# Altium footprint library CONN_TBLOCK_2P54.PcbLib: 38 footprints (part 2 of 3)
Each footprint in its own frame and in the unit in brackets; x right, y up, seen from the top. Pads: shape width x height; smd on the part's side, far side on the other; paste and mask are expansions set on the pad; w line width, h text height; cw(c..) or ccw(c..) is an arc to the next point about the centre after c.
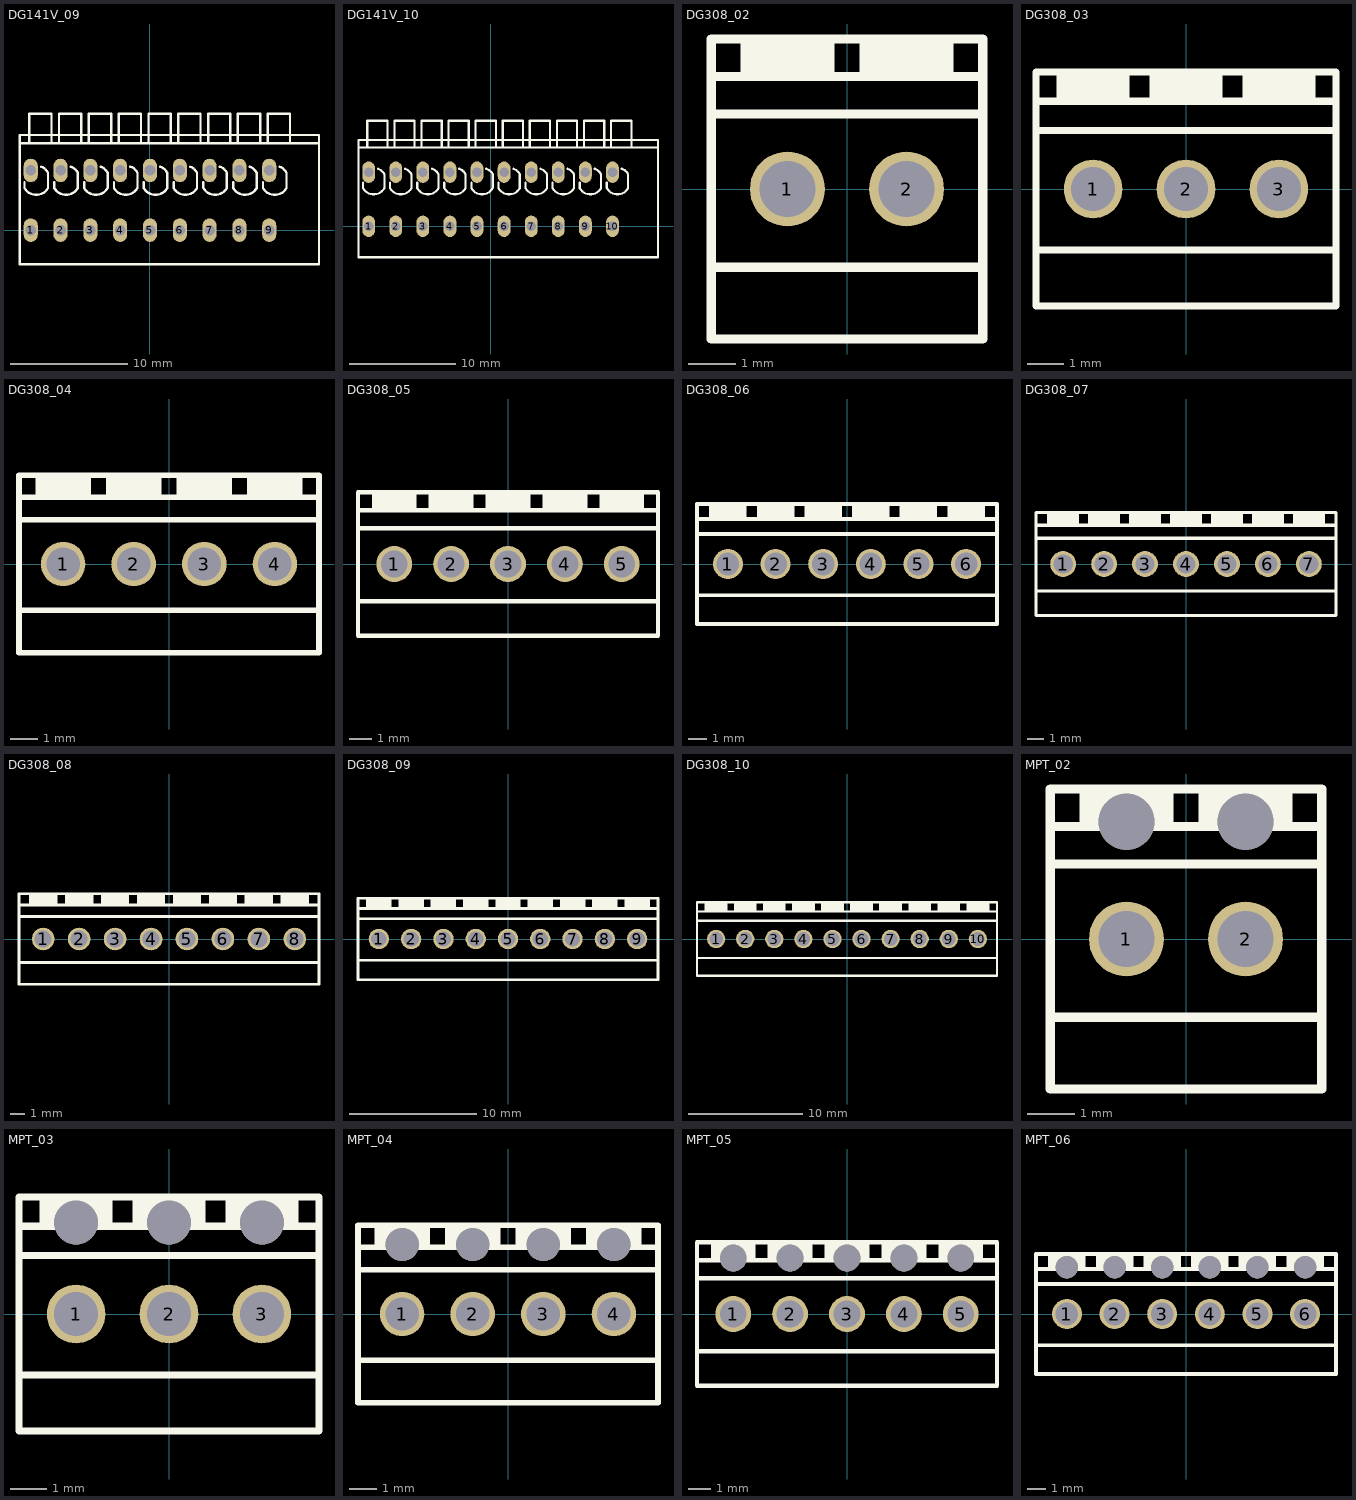
[diagram p1: the footprints below, top view; thin cyan lines are the x and y axes]

## DG141V_09 [mm] "Terminal Block Spring, Pitch 2.54mm, Green"
height 13.6
pads (18):
  oval 1.2x2 hole 0.9: 1(-10.16,0) 2(-7.62,0) 3(-5.08,0) 4(-2.54,0) 5(0,0) 6(2.54,0) 7(5.08,0) 8(7.62,0) 9(10.16,0) ""(-10.16,5.08) ""(-7.62,5.08) ""(-5.08,5.08) ""(-2.54,5.08) ""(0,5.08) ""(2.54,5.08) ""(5.08,5.08) ""(7.62,5.08) ""(10.16,5.08)
Top Overlay:
  lines w0.2: -11.1,7.4 14.4,7.4 ; -10.69,3.6 -10.69,4.1 ; -10.686,3.575 ccw(c-9.69,4.15) -8.694,3.575 ; -10.29,7.4 -10.29,9.9 -8.39,9.9 -8.39,7.4 ; -9.288,5.404 cw(c-9.686,4.325) -8.69,4.9 -8.69,3.6 ; -8.15,3.6 -8.15,4.1 ; -8.146,3.575 ccw(c-7.15,4.15) -6.154,3.575 ; -7.75,7.4 -7.75,9.9 -5.85,9.9 -5.85,7.4 ; -6.748,5.404 cw(c-7.146,4.325) -6.15,4.9 -6.15,3.6 ; -5.61,3.6 -5.61,4.1 ; -5.606,3.575 ccw(c-4.61,4.15) -3.614,3.575 ; -5.21,7.4 -5.21,9.9 -3.31,9.9 -3.31,7.4 ; -4.208,5.404 cw(c-4.606,4.325) -3.61,4.9 -3.61,3.6 ; -3.07,3.6 -3.07,4.1 ; -3.066,3.575 ccw(c-2.07,4.15) -1.074,3.575 ; -2.67,7.4 -2.67,9.9 -0.77,9.9 -0.77,7.4 ; -1.668,5.404 cw(c-2.066,4.325) -1.07,4.9 -1.07,3.6 ; -0.53,3.6 -0.53,4.1 ; -0.526,3.575 ccw(c0.47,4.15) 1.466,3.575 ; -0.13,7.4 -0.13,9.9 1.77,9.9 1.77,7.4 ; 0.872,5.404 cw(c0.474,4.325) 1.47,4.9 1.47,3.6 ; 2.01,3.6 2.01,4.1 ; 2.014,3.575 ccw(c3.01,4.15) 4.006,3.575 ; 2.41,7.4 2.41,9.9 4.31,9.9 4.31,7.4 ; 3.412,5.404 cw(c3.014,4.325) 4.01,4.9 4.01,3.6 ; 4.55,3.6 4.55,4.1 ; 4.554,3.575 ccw(c5.55,4.15) 6.546,3.575 ; 4.95,7.4 4.95,9.9 6.85,9.9 6.85,7.4 ; 5.952,5.404 cw(c5.554,4.325) 6.55,4.9 6.55,3.6 ; 7.09,3.6 7.09,4.1 ; 7.094,3.575 ccw(c8.09,4.15) 9.086,3.575 ; 7.49,7.4 7.49,9.9 9.39,9.9 9.39,7.4 ; 8.492,5.404 cw(c8.094,4.325) 9.09,4.9 9.09,3.6 ; 9.63,3.6 9.63,4.1 ; 9.634,3.575 ccw(c10.63,4.15) 11.626,3.575 ; 10.03,7.4 10.03,9.9 11.93,9.9 11.93,7.4 ; 11.032,5.404 cw(c10.634,4.325) 11.63,4.9 11.63,3.6 ; -11.1,-2.9 -11.1,8.1 14.4,8.1 14.4,-2.9 -11.1,-2.9
3D body "DG141V-2.54-03P.stp": height 13.6, standoff -3.5, extent 4.18,-2.8 14.34,9.8
3D body "DG141V-2.54-03P.stp": height 13.6, standoff -3.5, extent -3.44,-2.8 6.72,9.8
3D body "DG141V-2.54-03P.stp": height 13.6, standoff -3.5, extent -11.06,-2.8 -0.9,9.8

## DG141V_10 [mm] "Terminal Block Spring, Pitch 2.54mm, Green"
height 13.6
pads (20):
  oval 1.2x2 hole 0.9: 1(-11.43,0) 2(-8.89,0) 3(-6.35,0) 4(-3.81,0) 5(-1.27,0) 6(1.27,0) 7(3.81,0) 8(6.35,0) 9(8.89,0) 10(11.43,0) ""(-11.43,5.08) ""(-8.89,5.08) ""(-6.35,5.08) ""(-3.81,5.08) ""(-1.27,5.08) ""(1.27,5.08) ""(3.81,5.08) ""(6.35,5.08) ""(8.89,5.08) ""(11.43,5.08)
Top Overlay:
  lines w0.2: -12.4,7.4 15.7,7.4 ; -11.96,3.6 -11.96,4.1 ; -11.956,3.575 ccw(c-10.96,4.15) -9.964,3.575 ; -11.56,7.4 -11.56,9.9 -9.66,9.9 -9.66,7.4 ; -10.558,5.404 cw(c-10.956,4.325) -9.96,4.9 -9.96,3.6 ; -9.42,3.6 -9.42,4.1 ; -9.416,3.575 ccw(c-8.42,4.15) -7.424,3.575 ; -9.02,7.4 -9.02,9.9 -7.12,9.9 -7.12,7.4 ; -8.018,5.404 cw(c-8.416,4.325) -7.42,4.9 -7.42,3.6 ; -6.88,3.6 -6.88,4.1 ; -6.876,3.575 ccw(c-5.88,4.15) -4.884,3.575 ; -6.48,7.4 -6.48,9.9 -4.58,9.9 -4.58,7.4 ; -5.478,5.404 cw(c-5.876,4.325) -4.88,4.9 -4.88,3.6 ; -4.34,3.6 -4.34,4.1 ; -4.336,3.575 ccw(c-3.34,4.15) -2.344,3.575 ; -3.94,7.4 -3.94,9.9 -2.04,9.9 -2.04,7.4 ; -2.938,5.404 cw(c-3.336,4.325) -2.34,4.9 -2.34,3.6 ; -1.8,3.6 -1.8,4.1 ; -1.796,3.575 ccw(c-0.8,4.15) 0.196,3.575 ; -1.4,7.4 -1.4,9.9 0.5,9.9 0.5,7.4 ; -0.398,5.404 cw(c-0.796,4.325) 0.2,4.9 0.2,3.6 ; 0.74,3.6 0.74,4.1 ; 0.744,3.575 ccw(c1.74,4.15) 2.736,3.575 ; 1.14,7.4 1.14,9.9 3.04,9.9 3.04,7.4 ; 2.142,5.404 cw(c1.744,4.325) 2.74,4.9 2.74,3.6 ; 3.28,3.6 3.28,4.1 ; 3.284,3.575 ccw(c4.28,4.15) 5.276,3.575 ; 3.68,7.4 3.68,9.9 5.58,9.9 5.58,7.4 ; 4.682,5.404 cw(c4.284,4.325) 5.28,4.9 5.28,3.6 ; 5.82,3.6 5.82,4.1 ; 5.824,3.575 ccw(c6.82,4.15) 7.816,3.575 ; 6.22,7.4 6.22,9.9 8.12,9.9 8.12,7.4 ; 7.222,5.404 cw(c6.824,4.325) 7.82,4.9 7.82,3.6 ; 8.36,3.6 8.36,4.1 ; 8.364,3.575 ccw(c9.36,4.15) 10.356,3.575 ; 8.76,7.4 8.76,9.9 10.66,9.9 10.66,7.4 ; 9.762,5.404 cw(c9.364,4.325) 10.36,4.9 10.36,3.6 ; 10.9,3.6 10.9,4.1 ; 10.904,3.575 ccw(c11.9,4.15) 12.896,3.575 ; 11.3,7.4 11.3,9.9 13.2,9.9 13.2,7.4 ; 12.302,5.404 cw(c11.904,4.325) 12.9,4.9 12.9,3.6 ; -12.4,-2.9 15.7,-2.9 15.7,8.1 -12.4,8.1 -12.4,-2.9
3D body "DG141V-2.54-02P.stp": height 13.6, standoff -3.5, extent -12.33,-2.8 -4.71,9.8
3D body "DG141V-2.54-03P.stp": height 13.6, standoff -3.5, extent -7.25,-2.8 2.91,9.8
3D body "DG141V-2.54-02P.stp": height 13.6, standoff -3.5, extent 0.37,-2.8 7.99,9.8
3D body "DG141V-2.54-03P.stp": height 13.6, standoff -3.5, extent 5.45,-2.8 15.61,9.8

## DG308_02 [mm] "Terminal Block Screw, Pitch 2.54mm, H 8.6mm"
height 8.6
pads (2):
  round 1.6 / inner oval 2x3 / far side oval 2x3 hole 1.2: 1(-1.27,0) 2(1.27,0)
Top Overlay:
  rectangle: -2.27,2.4 -0.27,3.2
  rectangle: 0.27,2.4 2.27,3.2
  lines w0.2: -2.83,1.6 2.9,1.6 ; -2.83,2.4 2.9,2.4 ; -2.81,-1.668 2.9,-1.668 ; -2.9,-3.2 2.9,-3.2 2.9,3.2 -2.9,3.2 -2.9,-3.2
3D body "DG308-2.54-02P.stp": height 8.53, standoff -3.47, extent -2.8,-3.1 2.8,3.1

## DG308_03 [mm] "Terminal Block Screw, Pitch 2.54mm, H 8.6mm"
height 8.6
pads (3):
  round 1.6 / inner oval 2x3 / far side oval 2x3 hole 1.2: 1(-2.54,0) 2(0,0) 3(2.54,0)
Top Overlay:
  rectangle: -1,2.4 1,3.2
  rectangle: -3.54,2.4 -1.54,3.2
  rectangle: 1.54,2.4 3.54,3.2
  lines w0.2: -4.1,-1.668 4.1,-1.668 ; -4.1,1.6 4.1,1.6 ; -4.1,2.4 4.1,2.4 ; -4.1,-3.2 -4.1,3.2 4.1,3.2 4.1,-3.2 -4.1,-3.2
3D body "DG308-2.54-03P.stp": height 8.53, standoff -3.47, extent -4.07,-3.1 4.07,3.1

## DG308_04 [mm] "Terminal Block Screw, Pitch 2.54mm, H 8.6mm"
height 8.6
pads (4):
  round 1.6 / inner oval 2x3 / far side oval 2x3 hole 1.2: 1(-3.81,0) 2(-1.27,0) 3(1.27,0) 4(3.81,0)
Top Overlay:
  rectangle: -4.81,2.4 -2.81,3.2
  rectangle: -2.27,2.4 -0.27,3.2
  rectangle: 0.27,2.4 2.27,3.2
  rectangle: 2.81,2.4 4.81,3.2
  lines w0.2: -5.4,-1.668 5.4,-1.668 ; -5.4,1.6 5.4,1.6 ; -5.4,2.4 5.4,2.4 ; -5.4,-3.2 5.4,-3.2 5.4,3.2 -5.4,3.2 -5.4,-3.2
3D body "DG308-2.54-02P.stp": height 8.53, standoff -3.47, extent -0.26,-3.1 5.34,3.1
3D body "DG308-2.54-02P.stp": height 8.53, standoff -3.47, extent -5.34,-3.1 0.26,3.1

## DG308_05 [mm] "Terminal Block Screw, Pitch 2.54mm, H 8.6mm"
height 8.6
pads (5):
  round 1.6 / inner oval 2x3 / far side oval 2x3 hole 1.2: 1(-5.08,0) 2(-2.54,0) 3(0,0) 4(2.54,0) 5(5.08,0)
Top Overlay:
  rectangle: 4.08,2.4 6.08,3.2
  rectangle: 1.54,2.4 3.54,3.2
  rectangle: -1,2.4 1,3.2
  rectangle: -3.54,2.4 -1.54,3.2
  rectangle: -6.08,2.4 -4.08,3.2
  lines w0.2: -6.7,-1.668 6.7,-1.668 ; -6.7,1.6 6.7,1.6 ; -6.7,2.4 6.7,2.4 ; -6.7,-3.2 -6.7,3.2 6.7,3.2 6.7,-3.2 -6.7,-3.2
3D body "DG308-2.54-03P.stp": height 8.53, standoff -3.47, extent -1.53,-3.1 6.61,3.1
3D body "DG308-2.54-02P.stp": height 8.53, standoff -3.47, extent -6.61,-3.1 -1.01,3.1

## DG308_06 [mm] "Terminal Block Screw, Pitch 2.54mm, H 8.6mm"
height 8.6
pads (6):
  round 1.6 / inner oval 2x3 / far side oval 2x3 hole 1.2: 1(-6.35,0) 2(-3.81,0) 3(-1.27,0) 4(1.27,0) 5(3.81,0) 6(6.35,0)
Top Overlay:
  rectangle: 5.35,2.4 7.35,3.2
  rectangle: 2.81,2.4 4.81,3.2
  rectangle: 0.27,2.4 2.27,3.2
  rectangle: -2.27,2.4 -0.27,3.2
  rectangle: -4.81,2.4 -2.81,3.2
  rectangle: -7.35,2.4 -5.35,3.2
  lines w0.2: -8,-1.668 8,-1.668 ; -8,1.6 8,1.6 ; -8,2.4 8,2.4 ; -8,-3.2 -8,3.2 8,3.2 8,-3.2 -8,-3.2
3D body "DG308-2.54-03P.stp": height 8.53, standoff -3.47, extent -0.26,-3.1 7.88,3.1
3D body "DG308-2.54-03P.stp": height 8.53, standoff -3.47, extent -7.88,-3.1 0.26,3.1

## DG308_07 [mm] "Terminal Block Screw, Pitch 2.54mm, H 8.6mm"
height 8.6
pads (7):
  round 1.6 / inner oval 2x3 / far side oval 2x3 hole 1.2: 1(-7.62,0) 2(-5.08,0) 3(-2.54,0) 4(0,0) 5(2.54,0) 6(5.08,0) 7(7.62,0)
Top Overlay:
  rectangle: 6.62,2.4 8.62,3.2
  rectangle: 4.08,2.4 6.08,3.2
  rectangle: 1.54,2.4 3.54,3.2
  rectangle: -1,2.4 1,3.2
  rectangle: -3.54,2.4 -1.54,3.2
  rectangle: -6.08,2.4 -4.08,3.2
  rectangle: -8.62,2.4 -6.62,3.2
  lines w0.2: -9.3,-1.668 9.3,-1.668 ; -9.3,1.6 9.3,1.6 ; -9.3,2.4 9.3,2.4 ; -9.3,-3.2 -9.3,3.2 9.3,3.2 9.3,-3.2 -9.3,-3.2
3D body "DG308-2.54-02P.stp": height 8.53, standoff -3.47, extent 3.55,-3.1 9.15,3.1
3D body "DG308-2.54-03P.stp": height 8.53, standoff -3.47, extent -4.07,-3.1 4.07,3.1
3D body "DG308-2.54-02P.stp": height 8.53, standoff -3.47, extent -9.15,-3.1 -3.55,3.1

## DG308_08 [mm] "Terminal Block Screw, Pitch 2.54mm, H 8.6mm"
height 8.6
pads (8):
  round 1.6 / inner oval 2x3 / far side oval 2x3 hole 1.2: 1(-8.89,0) 2(-6.35,0) 3(-3.81,0) 4(-1.27,0) 5(1.27,0) 6(3.81,0) 7(6.35,0) 8(8.89,0)
Top Overlay:
  rectangle: -9.89,2.4 -7.89,3.2
  rectangle: -7.35,2.4 -5.35,3.2
  rectangle: -4.81,2.4 -2.81,3.2
  rectangle: -2.27,2.4 -0.27,3.2
  rectangle: 0.27,2.4 2.27,3.2
  rectangle: 2.81,2.4 4.81,3.2
  rectangle: 5.35,2.4 7.35,3.2
  rectangle: 7.89,2.4 9.89,3.2
  lines w0.2: -10.6,-1.668 10.6,-1.668 ; -10.6,1.6 10.6,1.6 ; -10.6,2.4 10.6,2.4 ; -10.6,-3.2 10.6,-3.2 10.6,3.2 -10.6,3.2 -10.6,-3.2
3D body "DG308-2.54-03P.stp": height 8.53, standoff -3.47, extent 2.28,-3.1 10.42,3.1
3D body "DG308-2.54-02P.stp": height 8.53, standoff -3.47, extent -10.42,-3.1 -4.82,3.1
3D body "DG308-2.54-03P.stp": height 8.53, standoff -3.47, extent -5.34,-3.1 2.8,3.1

## DG308_09 [mm] "Terminal Block Screw, Pitch 2.54mm, H 8.6mm"
height 8.6
pads (9):
  round 1.6 / inner oval 2x3 / far side oval 2x3 hole 1.2: 1(-10.16,0) 2(-7.62,0) 3(-5.08,0) 4(-2.54,0) 5(0,0) 6(2.54,0) 7(5.08,0) 8(7.62,0) 9(10.16,0)
Top Overlay:
  rectangle: -11.16,2.4 -9.16,3.2
  rectangle: -8.62,2.4 -6.62,3.2
  rectangle: -6.08,2.4 -4.08,3.2
  rectangle: -3.54,2.4 -1.54,3.2
  rectangle: -1,2.4 1,3.2
  rectangle: 1.54,2.4 3.54,3.2
  rectangle: 4.08,2.4 6.08,3.2
  rectangle: 6.62,2.4 8.62,3.2
  rectangle: 9.16,2.4 11.16,3.2
  lines w0.2: -11.8,-1.668 11.8,-1.668 ; -11.8,1.6 11.8,1.6 ; -11.8,2.4 11.8,2.4 ; -11.8,-3.2 11.8,-3.2 11.8,3.2 -11.8,3.2 -11.8,-3.2
3D body "DG308-2.54-03P.stp": height 8.53, standoff -3.47, extent -11.69,-3.1 -3.55,3.1
3D body "DG308-2.54-03P.stp": height 8.53, standoff -3.47, extent -4.07,-3.1 4.07,3.1
3D body "DG308-2.54-03P.stp": height 8.53, standoff -3.47, extent 3.55,-3.1 11.69,3.1

## DG308_10 [mm] "Terminal Block Screw, Pitch 2.54mm, H 8.6mm"
height 8.6
pads (10):
  round 1.6 / inner oval 2x3 / far side oval 2x3 hole 1.2: 1(-11.43,0) 2(-8.89,0) 3(-6.35,0) 4(-3.81,0) 5(-1.27,0) 6(1.27,0) 7(3.81,0) 8(6.35,0) 9(8.89,0) 10(11.43,0)
Top Overlay:
  rectangle: -12.43,2.4 -10.43,3.2
  rectangle: -9.89,2.4 -7.89,3.2
  rectangle: -7.35,2.4 -5.35,3.2
  rectangle: -4.81,2.4 -2.81,3.2
  rectangle: -2.27,2.4 -0.27,3.2
  rectangle: 0.27,2.4 2.27,3.2
  rectangle: 2.81,2.4 4.81,3.2
  rectangle: 5.35,2.4 7.35,3.2
  rectangle: 7.89,2.4 9.89,3.2
  rectangle: 10.43,2.4 12.43,3.2
  lines w0.2: -13.1,-1.668 13.1,-1.668 ; -13.1,1.6 13.1,1.6 ; -13.1,2.4 13.1,2.4 ; -13.1,-3.2 13.1,-3.2 13.1,3.2 -13.1,3.2 -13.1,-3.2
3D body "DG308-2.54-02P.stp": height 8.53, standoff -3.47, extent -12.96,-3.1 -7.36,3.1
3D body "DG308-2.54-03P.stp": height 8.53, standoff -3.47, extent -7.88,-3.1 0.26,3.1
3D body "DG308-2.54-02P.stp": height 8.53, standoff -3.47, extent -0.26,-3.1 5.34,3.1
3D body "DG308-2.54-03P.stp": height 8.53, standoff -3.47, extent 4.82,-3.1 12.96,3.1

## MPT_02 [mm] "PHOENIX MPT, 2.54mm pitch, MPT 0,5/ 2-2,54"
height 8.6
pads (4):
  round 1.6 / inner oval 2x3 / far side oval 2x3 hole 1.2: 1(-1.27,0) 2(1.27,0)
  round 1.2 hole 1.2 unplated: ""(-1.27,2.5) ""(1.27,2.5)
Top Overlay:
  rectangle: -2.27,2.4 -0.27,3.2
  rectangle: 0.27,2.4 2.27,3.2
  lines w0.2: -2.83,1.6 2.9,1.6 ; -2.83,2.4 2.9,2.4 ; -2.81,-1.668 2.9,-1.668 ; -2.9,-3.2 2.9,-3.2 2.9,3.2 -2.9,3.2 -2.9,-3.2
3D body "MPT-0-5-2-2-54_3D.stp": height 8.53, standoff -3.47, extent -2.8,-3.1 2.8,3.1

## MPT_03 [mm] "PHOENIX MPT, 2.54mm pitch, MPT 0,5/ 3-2,54"
height 8.6
pads (6):
  round 1.6 / inner oval 2x3 / far side oval 2x3 hole 1.2: 1(-2.54,0) 2(0,0) 3(2.54,0)
  round 1.2 hole 1.2 unplated: ""(-2.54,2.5) ""(0,2.5) ""(2.54,2.5)
Top Overlay:
  rectangle: 1.54,2.4 3.54,3.2
  rectangle: -3.54,2.4 -1.54,3.2
  rectangle: -1,2.4 1,3.2
  lines w0.2: -4.1,-1.668 4.1,-1.668 ; -4.1,1.6 4.1,1.6 ; -4.1,2.4 4.1,2.4 ; -4.1,-3.2 4.1,-3.2 4.1,3.2 -4.1,3.2 -4.1,-3.2
3D body "MPT-0-5-3-2-54_3D.stp": height 8.53, standoff -3.47, extent -4.07,-3.1 4.07,3.1

## MPT_04 [mm] "PHOENIX MPT, 2.54mm pitch, MPT 0,5/ 4-2,54"
height 8.6
pads (8):
  round 1.6 / inner oval 2x3 / far side oval 2x3 hole 1.2: 1(-3.81,0) 2(-1.27,0) 3(1.27,0) 4(3.81,0)
  round 1.2 hole 1.2 unplated: ""(-3.81,2.5) ""(-1.27,2.5) ""(1.27,2.5) ""(3.81,2.5)
Top Overlay:
  rectangle: 2.81,2.4 4.81,3.2
  rectangle: 0.27,2.4 2.27,3.2
  rectangle: -2.27,2.4 -0.27,3.2
  rectangle: -4.81,2.4 -2.81,3.2
  lines w0.2: -5.4,-1.668 5.4,-1.668 ; -5.4,1.6 5.4,1.6 ; -5.4,2.4 5.4,2.4 ; -5.4,-3.2 -5.4,3.2 5.4,3.2 5.4,-3.2 -5.4,-3.2
3D body "MPT-0-5-2-2-54_3D.stp": height 8.53, standoff -3.47, extent -0.26,-3.1 5.34,3.1
3D body "MPT-0-5-2-2-54_3D.stp": height 8.53, standoff -3.47, extent -5.34,-3.1 0.26,3.1

## MPT_05 [mm] "PHOENIX MPT, 2.54mm pitch, MPT 0,5/ 5-2,54"
height 8.6
pads (10):
  round 1.6 / inner oval 2x3 / far side oval 2x3 hole 1.2: 1(-5.08,0) 2(-2.54,0) 3(0,0) 4(2.54,0) 5(5.08,0)
  round 1.2 hole 1.2 unplated: ""(-5.08,2.5) ""(-2.54,2.5) ""(0,2.5) ""(2.54,2.5) ""(5.08,2.5)
Top Overlay:
  rectangle: -6.08,2.4 -4.08,3.2
  rectangle: -3.54,2.4 -1.54,3.2
  rectangle: -1,2.4 1,3.2
  rectangle: 1.54,2.4 3.54,3.2
  rectangle: 4.08,2.4 6.08,3.2
  lines w0.2: -6.7,-1.668 6.7,-1.668 ; -6.7,1.6 6.7,1.6 ; -6.7,2.4 6.7,2.4 ; -6.7,-3.2 6.7,-3.2 6.7,3.2 -6.7,3.2 -6.7,-3.2
3D body "MPT-0-5-2-2-54_3D.stp": height 8.53, standoff -3.47, extent -6.61,-3.1 -1.01,3.1
3D body "MPT-0-5-3-2-54_3D.stp": height 8.53, standoff -3.47, extent -1.53,-3.1 6.61,3.1

## MPT_06 [mm] "PHOENIX MPT, 2.54mm pitch, MPT 0,5/ 6-2,54"
height 8.6
pads (12):
  round 1.6 / inner oval 2x3 / far side oval 2x3 hole 1.2: 1(-6.35,0) 2(-3.81,0) 3(-1.27,0) 4(1.27,0) 5(3.81,0) 6(6.35,0)
  round 1.2 hole 1.2 unplated: ""(-6.35,2.5) ""(-3.81,2.5) ""(-1.27,2.5) ""(1.27,2.5) ""(3.81,2.5) ""(6.35,2.5)
Top Overlay:
  rectangle: -7.35,2.4 -5.35,3.2
  rectangle: -4.81,2.4 -2.81,3.2
  rectangle: -2.27,2.4 -0.27,3.2
  rectangle: 0.27,2.4 2.27,3.2
  rectangle: 2.81,2.4 4.81,3.2
  rectangle: 5.35,2.4 7.35,3.2
  lines w0.2: -8,-1.668 8,-1.668 ; -8,1.6 8,1.6 ; -8,2.4 8,2.4 ; -8,-3.2 8,-3.2 8,3.2 -8,3.2 -8,-3.2
3D body "MPT-0-5-3-2-54_3D.stp": height 8.53, standoff -3.47, extent -0.26,-3.1 7.88,3.1
3D body "MPT-0-5-3-2-54_3D.stp": height 8.53, standoff -3.47, extent -7.88,-3.1 0.26,3.1